# Altium schematic symbol library P_DEP_MOSFET.Schlib: 1 symbol
Pins are listed as number, name and electrical type; pins without a type are passive.

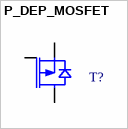
[diagram p0: symbol P_DEP_MOSFET]

## P_DEP_MOSFET
designator T?
P-Channel Depletion MOSFET
pins: D, G, S